# EAGLE library part 44193-0003 (library 44193-0003)
2 Port Modular Jack Right Angle 8/8 RJ45 Molex Female Cat3, Cat4 RJ45 Modular Jack, Right Angle, Surface Mount Mount, 44193 <https://componentsearchengine.com/Images/3/44193-0003.jpg> Source: Datasheet <http://uk.rs-online.com/web/p/products/8006930>
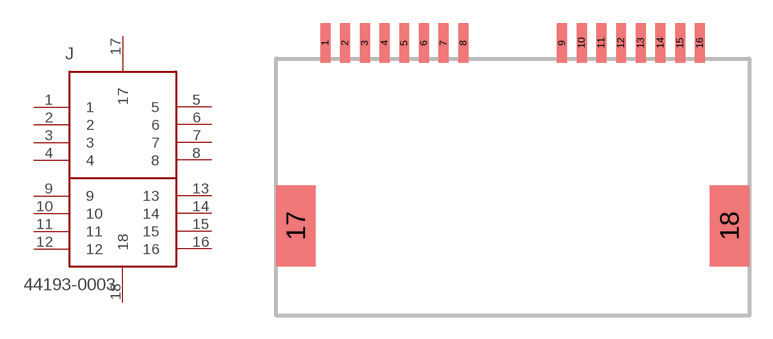
[diagram p0: symbol with the pads of 44193-0003; footprint 44193-0003]

Designator prefix J

## 44193-0003 (DESCRIPTION: 2 Port Modular Jack Right Angle 8/8 RJ45 Molex Female Cat3, Cat4 RJ45 Modular Jack, Right Angle, Surface Mount Mount, 44193; HEIGHT: mm; MANUFACTURER_NAME: Molex; MANUFACTURER_PART_NUMBER: 44193-0003; RS_PART_NUMBER: 8006930; SUPPLIER_NAME: RS)  [44193-0003]
1  1  in
2  2  in
3  3  in
4  4  in
5  5  in
6  6  in
7  7  in
8  8  in
9  9  in
10  10  in
11  11  in
12  12  in
13  13  in
14  14  in
15  15  in
16  16  in
17  17  in
18  18  in

## Footprint 44193-0003 (pad centres in mm)
44193-0003
smd 0.64 x 2.54: 1 -12.065,0; 2 -10.795,0; 3 -9.525,0; 4 -8.255,0; 5 -6.985,0; 6 -5.715,0; 7 -4.445,0; 8 -3.175,0; 9 3.175,0; 10 4.445,0; 11 5.715,0; 12 6.985,0; 13 8.255,0; 14 9.525,0; 15 10.795,0; 16 12.065,0
smd 2.54 x 5.21: 17 -13.97,-11.795; 18 13.97,-11.795